# Altium schematic symbol library LED-RGB-共阳.SchLib: 2 symbols
Pins are listed as number, name and electrical type; pins without a type are passive.

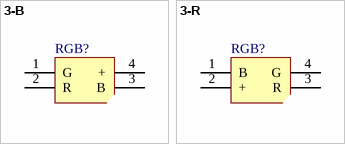
[diagram p0: symbols 3-B to 3-R]

## 3-B
designator RGB?
共阳RGB / 1：蓝 2：+ 3：红 4：绿
pins: 1 G, 2 R, 3 B, 4 +

## 3-R
designator RGB?
共阳RGB / 1：蓝 2：+ 3：红 4：绿
pins: 1 B, 2 +, 3 R, 4 G